# Altium footprint library TranFet.PcbLib: 4 footprints
Each footprint in its own frame and in the unit in brackets; x right, y up, seen from the top. Pads: shape width x height; smd on the part's side, far side on the other; paste and mask are expansions set on the pad; w line width, h text height; cw(c..) or ccw(c..) is an arc to the next point about the centre after c.
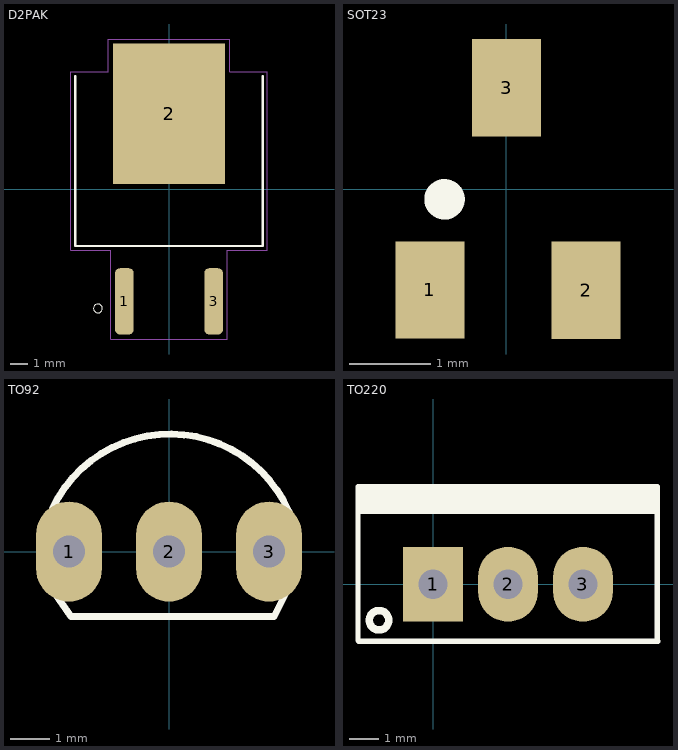
[diagram p0: the footprints below, top view; thin cyan lines are the x and y axes]

## D2PAK [mm]
pads (3):
  rrect53% 1.06x3.78 smd: 1(-2.54,-6.4) 3(2.54,-6.4)
  rect 6.39x8 smd paste-5 mask+0: 2(0,4.29)
Top Overlay:
  circle w0: c-4.05,-6.8 r0.25
  lines w0.12: -5.34,6.42 -5.34,-3.24 5.32,-3.24 ; 5.34,-3.24 5.34,6.42
Top Paste:
  region: 3.05,8.15 2.036,8.15 2.036,8.286 3.05,8.286
  region: -1.45,8.15 -4.242,8.15 -4.242,8.205 -1.45,8.205
  region: 3.05,0.557 2.024,0.557 2.024,2.65 3.05,2.65
  region: 0.8,0.568 -1.138,0.568 -1.138,2.65 0.8,2.65
  region: 3.05,4.412 2.031,4.412 2.031,5.4 3.05,5.4
  region: 0.8,4.435 -1.126,4.435 -1.126,5.4 0.8,5.4
  region: 0.8,8.15 -1.111,8.15 -1.111,8.194 0.8,8.194
Mechanical 15:
  lines w0.05: -5.59,-3.49 -3.32,-3.49 -3.32,-8.54 3.32,-8.54 3.32,-3.49 5.59,-3.49 5.59,6.67 3.45,6.67 3.45,8.54 -3.45,8.54 -3.45,6.67 -5.59,6.67 -5.59,-3.49
3D body "IRF3709SPBF.STEP": height 4.83, standoff -0.25, extent -5.08,-6.35 5.08,8.89

## SOT23 [mm] "SOT 23 _ 1-3-2"
height 1.27
pads (3):
  rect 0.85x1.2 smd: 1(-0.94,-1.245) 2(0.985,-1.25) 3(0.005,1.25)
Top Overlay:
  circle w0.25: c-0.76,-0.127 r0.125
3D body "SW3DPS-SOT-23-DEFAULT.STEP": height 1.06, standoff -0.04, extent -1.475,-1.326 1.525,1.174

## TO92 [mil] "TO-92"
height 200
pads (3):
  oval 66x100 hole 32: 1(-100,0) 2(0,0) 3(100,0)
Top Overlay:
  lines w7: -116.52,43.21 cw(c0.97,-12.43) 119.94,39.97 ; -115.34,-40.24 -98,-65 105,-65 118,-39
3D body "SW3dPS-TO92.STEP": height 245.04, standoff -199.79, extent -108.87,-65.56 108.86,95

## TO220 [mil] "TO-220"
height 200
pads (3):
  rect 80x100 hole 39: 1(0,0)
  oval 80x100 hole 39: 2(100,0) 3(200,0)
Top Overlay:
  circle w10: c-72.03,-48 r12.97
  rectangle: -99,94 300,130
  lines w7: 298,107 299,93 ; -100,-75 -99,-76 -76,-76 300,-76 299,-75 299,130 -100,130 -100,-75
3D body "User Library-TO-220-1.STEP": height 322.83, standoff -810.24, extent -94.88,-80 294.88,97.17